# Altium footprint library ECS-.327-CDX-1128.PcbLib: 1 footprints
Each footprint in its own frame and in the unit in brackets; x right, y up, seen from the top. Pads: shape width x height; smd on the part's side, far side on the other; paste and mask are expansions set on the pad; w line width, h text height; cw(c..) or ccw(c..) is an arc to the next point about the centre after c.
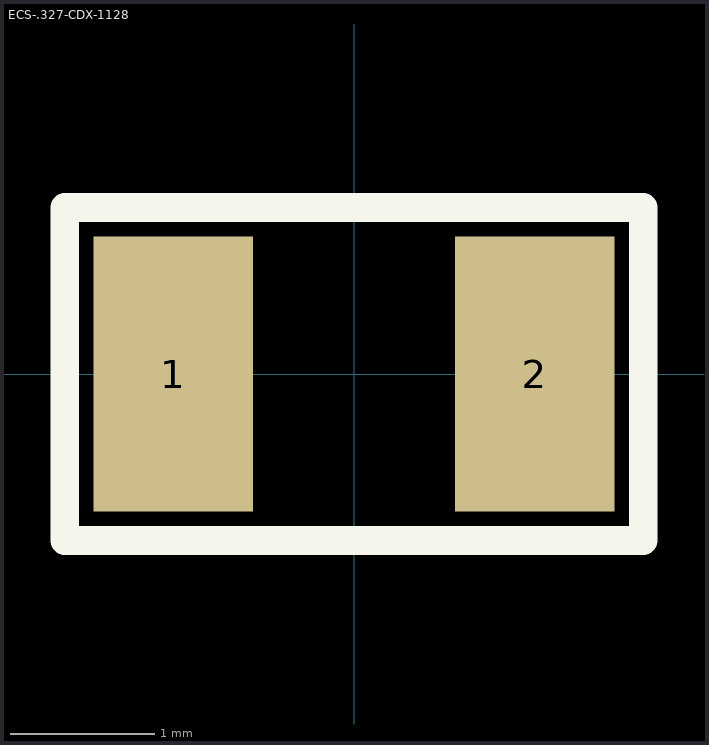
[diagram p0: the footprint, top view; thin cyan lines are the x and y axes]

## ECS-.327-CDX-1128 [mm] "ECS-.327-CDX-1128"
height 0.9
pads (2):
  rect 1.1x1.9 smd paste+0 mask+0.05: 1(-1.25,0) 2(1.25,0)
Top Overlay:
  lines w0.2: -2,-1.15 2,-1.15 2,1.15 -2,1.15 -2,-1.15
3D body: height 0.9, standoff 0.05, extent -1.6,-0.75 1.6,0.75